# Altium schematic symbol library Ind_Murata_LQM21FN100M70L_eec.SchLib: 1 symbol
Pins are listed as number, name and electrical type; pins without a type are passive.

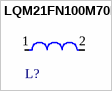
[diagram p0: symbol LQM21FN100M70L]

## LQM21FN100M70L
designator L?  (value not drawn)
pins: 1, 2